# Altium footprint library Testpoint.PcbLib: 6 footprints
Each footprint in its own frame and in the unit in brackets; x right, y up, seen from the top. Pads: shape width x height; smd on the part's side, far side on the other; paste and mask are expansions set on the pad; w line width, h text height; cw(c..) or ccw(c..) is an arc to the next point about the centre after c.
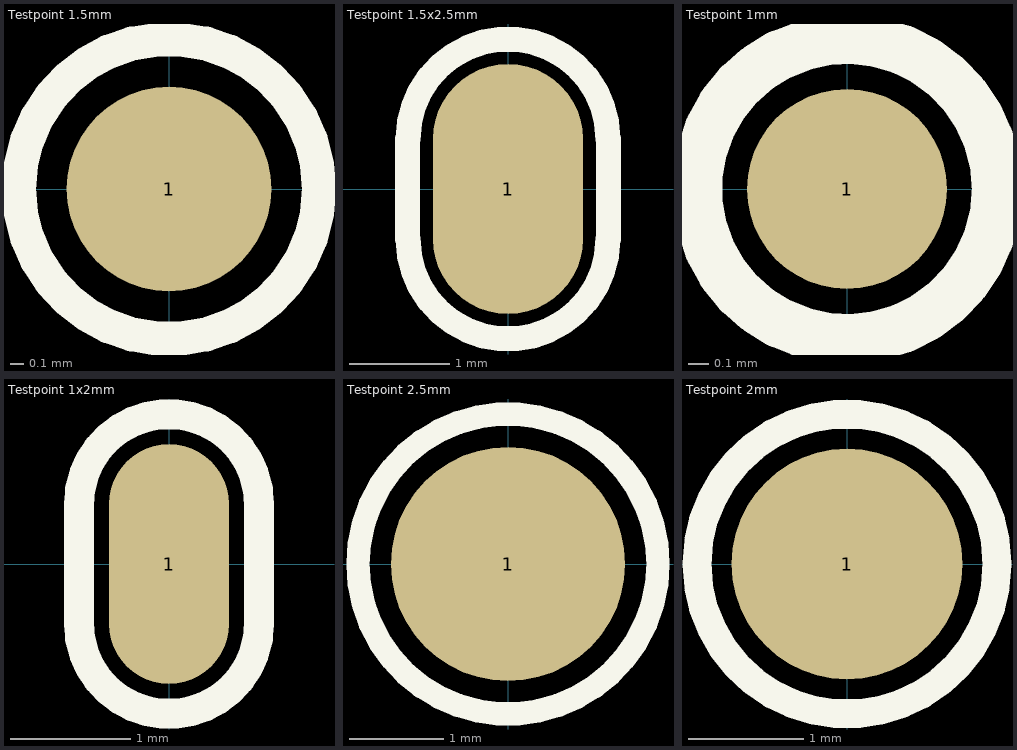
[diagram p0: the footprints below, top view; thin cyan lines are the x and y axes]

## Testpoint 1.5mm [mm]
pads (1):
  round 1.5 smd: 1(0,0)
Top Overlay:
  circle w0.25: c0,0 r1.1

## Testpoint 1.5x2.5mm [mm]
pads (1):
  oval 1.5x2.5 smd: 1(0,0)
Top Overlay:
  lines w0.25: -1.004,-0.5 -1.004,0.5 ; -1,-0.5 ccw(c0,-0.5) 1,-0.5 ; -1,0.5 cw(c0,0.5) 1,0.5 ; 1.004,-0.5 1.004,0.5

## Testpoint 1mm [mm]
pads (1):
  round 1 smd: 1(0,0)
Top Overlay:
  circle w0.25: c0,0 r0.75

## Testpoint 1x2mm [mm]
pads (1):
  oval 1x2 smd: 1(0,0)
Top Overlay:
  lines w0.25: -0.75,-0.5 ccw(c0,-0.5) 0.75,-0.5 0.75,0.5 ccw(c0,0.5) -0.75,0.5 -0.75,-0.5

## Testpoint 2.5mm [mm]
pads (1):
  round 2.5 smd: 1(0,0)
Top Overlay:
  circle w0.25: c0,0 r1.6

## Testpoint 2mm [mm]
pads (1):
  round 2 smd: 1(0,0)
Top Overlay:
  circle w0.25: c0,0 r1.3